# Altium footprint library MM32F327xG8P_CoreBoard.PcbLib: 1 footprints
Each footprint in its own frame and in the unit in brackets; x right, y up, seen from the top. Pads: shape width x height; smd on the part's side, far side on the other; paste and mask are expansions set on the pad; w line width, h text height; cw(c..) or ccw(c..) is an arc to the next point about the centre after c.
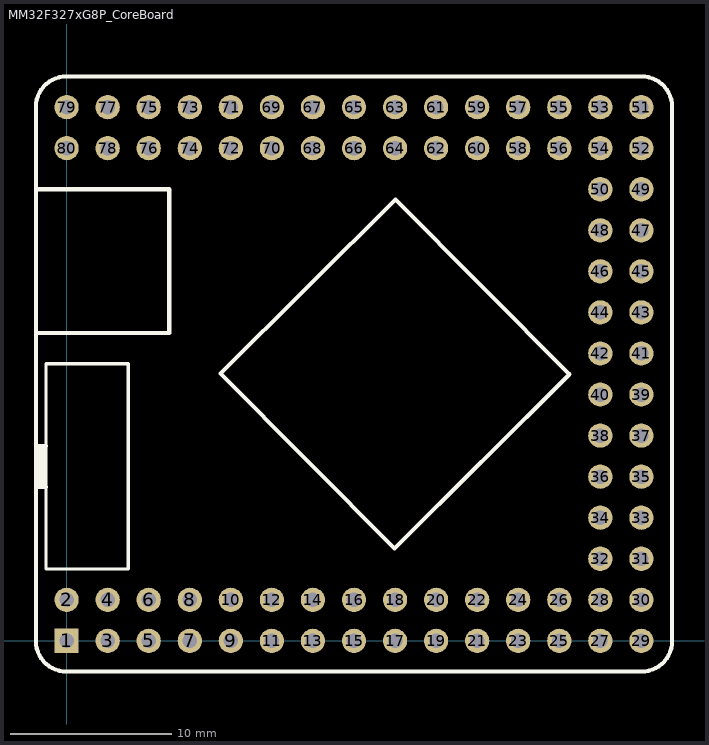
[diagram p0: the footprint, top view; thin cyan lines are the x and y axes]

## MM32F327xG8P_CoreBoard [mm] "逐飞科技MM32F327xG8P核心板"
pads (80):
  rect 1.5x1.5 hole 0.9: 1(0,0)
  round 1.5 hole 0.9: 2(0,2.54) 3(2.54,0) 4(2.54,2.54) 5(5.08,0) 6(5.08,2.54) 7(7.62,0) 8(7.62,2.54) 9(10.16,0) 10(10.16,2.54) 11(12.7,0) 12(12.7,2.54) 13(15.24,0) 14(15.24,2.54) 15(17.78,0) 16(17.78,2.54) 17(20.32,0) 18(20.32,2.54) 19(22.86,0) 20(22.86,2.54) 21(25.4,0) 22(25.4,2.54) 23(27.94,0) 24(27.94,2.54) 25(30.48,0) 26(30.48,2.54) 27(33.02,0) 28(33.02,2.54) 29(35.56,0) 30(35.56,2.54) 31(35.56,5.08) 32(33.02,5.08) 33(35.56,7.62) 34(33.02,7.62) 35(35.56,10.16) 36(33.02,10.16) 37(35.56,12.7) 38(33.02,12.7) 39(35.56,15.24) 40(33.02,15.24) 41(35.56,17.78) 42(33.02,17.78) 43(35.56,20.32) 44(33.02,20.32) 45(35.56,22.86) 46(33.02,22.86) 47(35.56,25.4) 48(33.02,25.4) 49(35.56,27.94) 50(33.02,27.94) 51(35.56,33.02) 52(35.56,30.48) 53(33.02,33.02) 54(33.02,30.48) 55(30.48,33.02) 56(30.48,30.48) 57(27.94,33.02) 58(27.94,30.48) 59(25.4,33.02) 60(25.4,30.48) 61(22.86,33.02) 62(22.86,30.48) 63(20.32,33.02) 64(20.32,30.48) 65(17.78,33.02) 66(17.78,30.48) 67(15.24,33.02) 68(15.24,30.48) 69(12.7,33.02) 70(12.7,30.48) 71(10.16,33.02) 72(10.16,30.48) 73(7.62,33.02) 74(7.62,30.48) 75(5.08,33.02) 76(5.08,30.48) 77(2.54,33.02) 78(2.54,30.48) 79(0,33.02) 80(0,30.48)
Top Overlay:
  lines w0.2: -1.27,4.445 3.81,4.445 3.81,17.145 -1.27,17.145 -1.27,4.445
  lines w0.254: -1.905,19.05 6.35,19.05 6.35,27.94 -1.905,27.94 ; -1.651,9.525 -1.651,12.065 ; -1.397,9.525 -1.397,12.065 ; -1.27,9.525 -1.905,9.525 -1.905,12.065 -1.27,12.065 ; -1.905,0 ccw(c0,0) 0,-1.905 35.56,-1.905 ccw(c35.56,0) 37.465,0 37.465,33.02 ccw(c35.56,33.02) 35.56,34.925 0,34.925 ccw(c0,33.02) -1.905,33.02 -1.905,0 ; 9.529,16.534 20.292,5.724 31.109,16.493 20.347,27.304 9.529,16.534
3D body "CH32V307VxT6_CoreBoard.step": height 13.54, standoff -3.95, extent -1.925,-1.905 37.465,34.925